# Altium footprint library Footprint Library.PcbLib: 8 footprints
Each footprint in its own frame and in the unit in brackets; x right, y up, seen from the top. Pads: shape width x height; smd on the part's side, far side on the other; paste and mask are expansions set on the pad; w line width, h text height; cw(c..) or ccw(c..) is an arc to the next point about the centre after c.
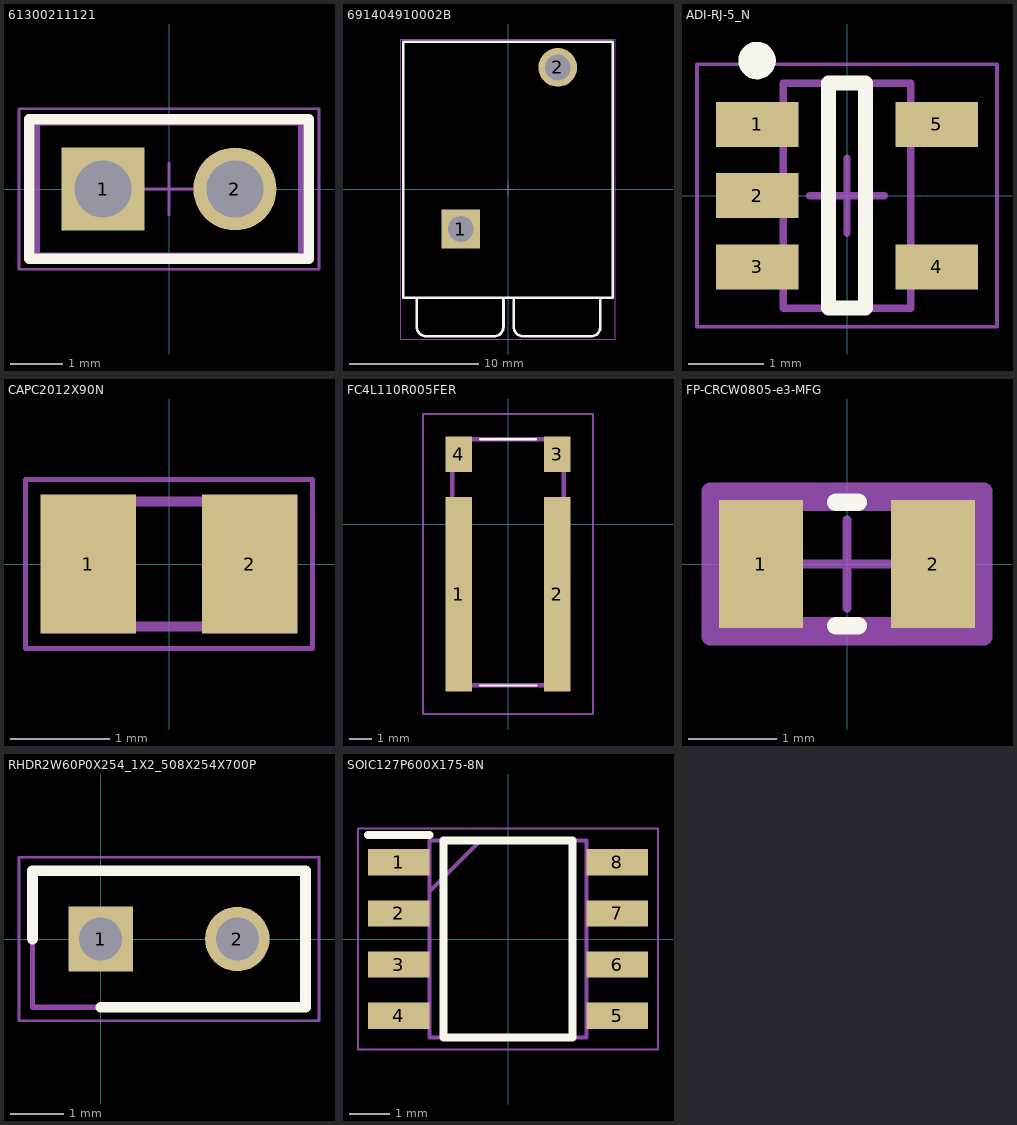
[diagram p0: the footprints below, top view; thin cyan lines are the x and y axes]

## 61300211121 [mm] "Pin Header, pitch 2.54 mm, THT, Vertical, single row, 2p"
height 8.54
pads (2):
  rect 1.6x1.6 hole 1.1: 1(-1.27,0)
  round 1.6 hole 1.1: 2(1.27,0)
Top Overlay:
  lines w0.2: -2.69,-1.345 2.69,-1.345 2.69,1.345 -2.69,1.345 -2.69,-1.345
Mechanical 13:
  lines w0.1: -2.54,-1.27 -2.54,1.27 2.54,1.27 2.54,-1.27 -2.54,-1.27
Mechanical 15:
  lines w0.05: -0.5,0 0.5,0 ; 0,-0.5 0,0.5 ; -2.89,-1.545 -2.89,1.545 2.89,1.545 2.89,-1.545 -2.89,-1.545
3D body "61300211121.stp": height 8.57, standoff -2.97, extent -2.54,-1.27 2.54,1.27

## 691404910002B [mm] "7.50 mm Screwless Clamp Power Connector, 2p"
height 24.1
pads (2):
  rect 3x3 hole 2: 1(-3.65,-3.1)
  round 3 hole 2: 2(3.85,9.4)
Top Overlay:
  lines w0.2: -7.05,-8.4 -7.05,-10.65 ccw(c-6.3,-10.65) -6.3,-11.4 -1.05,-11.4 ; -1.1,-11.4 ccw(c-1.1,-10.65) -0.35,-10.65 -0.35,-8.4 ; 0.45,-8.4 0.45,-10.65 ccw(c1.2,-10.65) 1.2,-11.4 6.45,-11.4 ; 6.4,-11.4 ccw(c6.4,-10.65) 7.15,-10.65 7.15,-8.4 ; -8.1,-8.4 -8.1,11.4 8.1,11.4 8.1,-8.4 -8.1,-8.4
Mechanical 13:
  lines w0.1: -7.05,-8.4 -7.05,-10.65 ccw(c-6.3,-10.65) -6.3,-11.4 -1.05,-11.4 ; -1.1,-11.4 ccw(c-1.1,-10.65) -0.35,-10.65 -0.35,-8.4 ; 0.45,-8.4 0.45,-10.65 ccw(c1.2,-10.65) 1.2,-11.4 6.45,-11.4 ; 6.4,-11.4 ccw(c6.4,-10.65) 7.15,-10.65 7.15,-8.4 ; -8.1,-8.4 8.1,-8.4 8.1,11.4 -8.1,11.4 -8.1,-8.4
Mechanical 15:
  lines w0.05: -0.5,0 0.5,0 ; 0,-0.5 0,0.5 ; -8.3,-11.6 -8.3,11.6 8.3,11.6 8.3,-11.6 -8.3,-11.6
3D body "691404910002B.stp": height 24.16, standoff -3.54, extent -8.1,-11.395 8.1,11.4

## ADI-RJ-5_N [mm] "SOT-23, 5-Leads, Body 2.9x1.6mm, Pitch 0.95mm, IPC Medium Density"
height 1.45
pads (5):
  rect 1.1x0.6 smd: 1(-1.2,0.95) 2(-1.2,0) 3(-1.2,-0.95) 4(1.2,-0.95) 5(1.2,0.95)
Top Overlay:
  circle w0.25: c-1.2,1.8 r0.125
  lines w0.2: -0.25,-1.5 -0.25,1.5 0.25,1.5 0.25,-1.5 -0.25,-1.5
Mechanical 13:
  lines w0.1: -0.85,-1.5 0.85,-1.5 0.85,1.5 -0.85,1.5 -0.85,-1.5
Mechanical 15:
  lines w0.05: -2,-1.75 2,-1.75 2,1.75 -2,1.75 -2,-1.75
  lines w0.1: -0.5,0 0.5,0 ; 0,-0.5 0,0.5
3D body: height 1.45, standoff 0.05, extent -0.85,-1.5 0.85,1.5

## CAPC2012X90N [mm]
pads (2):
  rect 0.96x1.39 smd: 1(-0.81,0) 2(0.81,0)
Mechanical 13:
  lines w0.1: -1,-0.625 -1,0.625 1,0.625 1,-0.625 -1,-0.625
Mechanical 15:
  lines w0.05: -1.44,-0.85 -1.44,0.85 1.44,0.85 1.44,-0.85 -1.44,-0.85
3D body "885012207098.stp": height 0.9, standoff 0, extent -1,-0.625 1,0.625

## FC4L110R005FER [mm]
pads (4):
  rect 1.2x8.7 smd: 1(-2.2,-3.125) 2(2.2,-3.125)
  rect 1.2x1.6 smd: 3(2.2,3.125) 4(-2.2,3.125)
Top Overlay:
  lines w0.1: -1.25,-7.2 1.275,-7.2 ; -1.25,3.8 1.25,3.8
Mechanical 13:
  lines w0.2: -2.5,-7.2 -2.5,3.8 2.5,3.8 2.5,-7.2 -2.5,-7.2
Mechanical 15:
  lines w0.1: -3.8,-8.475 -3.8,4.925 3.8,4.925 3.8,-8.475 -3.8,-8.475
3D body "FC4L110R005FER.stp": height 0.8, standoff 0, extent -2.68,-7.355 2.68,3.805

## FP-CRCW0805-e3-MFG [mm]
pads (2):
  rect 0.95x1.45 smd paste+0 mask+0: 1(-0.975,0) 2(0.975,0)
Top Overlay:
  lines w0.2: -0.125,-0.7 0.125,-0.7 ; -0.125,0.7 0.125,0.7
Mechanical 5:
  lines w0.2: -1.55,-0.825 -1.55,0.825 1.55,0.825 1.55,-0.825 -1.55,-0.825
  text ".Designator" at 0,0.188 h1
Mechanical 13:
  lines w0.2: -1.1,-0.7 -1.1,0.7 1.1,0.7 1.1,-0.7 -1.1,-0.7
Mechanical 15:
  lines w0.2: -1.55,-0.825 -1.55,0.825 1.55,0.825 1.55,-0.825 -1.55,-0.825
Mechanical 16:
  lines w0.1: -0.5,0 0.5,0 ; 0,-0.5 0,0.5
3D body "Res_Vishay_CRCW0805100KFKEA_eec.STEP": height 0.25, standoff 0, extent -1.55,-0.825 1.55,0.825

## RHDR2W60P0X254_1X2_508X254X700P [mm]
pads (2):
  rect 1.2x1.2 hole 0.8: 1(0,0)
  round 1.2 hole 0.8: 2(2.54,0)
Top Overlay:
  lines w0.2: -1.27,0 -1.27,1.27 3.81,1.27 3.81,-1.27 0,-1.27
Mechanical 13:
  lines w0.1: -1.27,-1.27 3.81,-1.27 3.81,1.27 -1.27,1.27 -1.27,-1.27
Mechanical 15:
  lines w0.05: -1.52,-1.52 4.06,-1.52 4.06,1.52 -1.52,1.52 -1.52,-1.52
3D body "801-87-002-10-001101.stp": height 7, standoff -3, extent -1.27,-1.27 3.81,1.27

## SOIC127P600X175-8N [mm]
pads (8):
  rect 1.525x0.65 smd: 1(-2.712,1.905) 2(-2.712,0.635) 3(-2.712,-0.635) 4(-2.712,-1.905) 5(2.712,-1.905) 6(2.712,-0.635) 7(2.712,0.635) 8(2.712,1.905)
Top Overlay:
  lines w0.2: -3.475,2.58 -1.95,2.58 ; -1.6,-2.45 1.6,-2.45 1.6,2.45 -1.6,2.45 -1.6,-2.45
Mechanical 13:
  lines w0.1: -1.95,1.18 -0.68,2.45 ; -1.95,-2.45 1.95,-2.45 1.95,2.45 -1.95,2.45 -1.95,-2.45
Mechanical 15:
  lines w0.05: -3.725,-2.75 3.725,-2.75 3.725,2.75 -3.725,2.75 -3.725,-2.75
3D body "NE555DR.stp": height 1.75, standoff 0, extent -3,-2.45 3,2.45